# EAGLE library part RFID-4CT-4CM (library Neel)
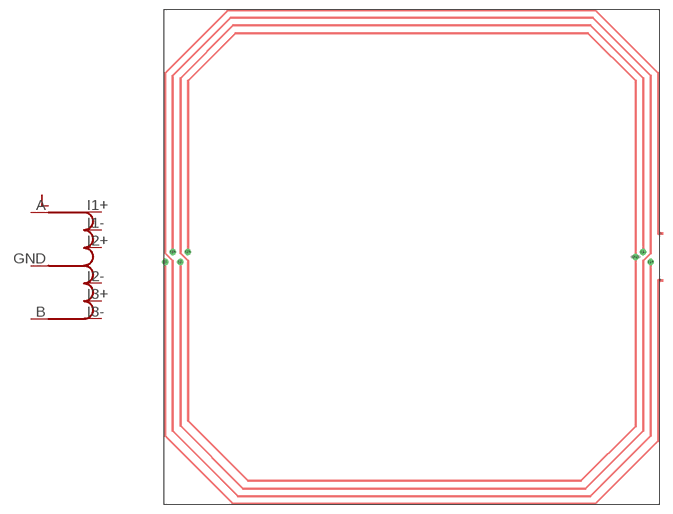
[diagram p53: symbol with the pads of ANT-RFID-R4CM; footprint ANT-RFID-R4CM]

Designator prefix L

## RFID-4CT-4CM  [ANT-RFID-R4CM]
A  A
B  B
GND  GND
I1+  1+
I1-  1-
I2+  2+
I2-  2-
I3+  3+
I3-  3-

## Footprint ANT-RFID-R4CM (pad centres in mm)
smd 0.813 x 0.406: A 40.234,3.759; B 40.234,-3.759
drill 0.5: GND 36.17,0; I1+ 38.608,-0.813; I1- 37.389,0.813; I2+ -36.17,0.813; I2- -37.389,-0.813; I3+ -38.608,0.813; I3- -39.827,-0.813